# Altium footprint library Picoblade 3X1.PcbLib: 1 footprints
Each footprint in its own frame and in the unit in brackets; x right, y up, seen from the top. Pads: shape width x height; smd on the part's side, far side on the other; paste and mask are expansions set on the pad; w line width, h text height; cw(c..) or ccw(c..) is an arc to the next point about the centre after c.
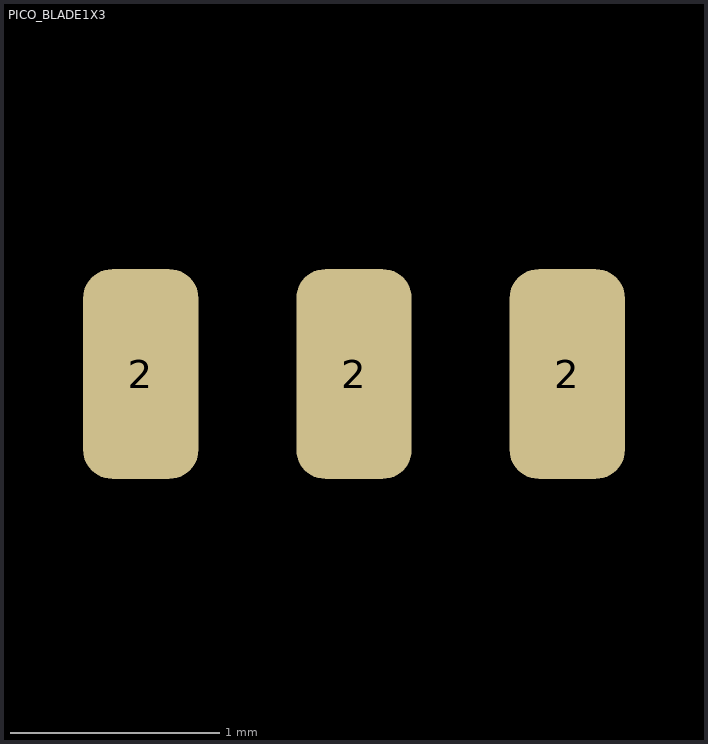
[diagram p0: the footprint, top view; thin cyan lines are the x and y axes]

## PICO_BLADE1X3 [mm]
pads (3):
  rrect50% 0.55x1 smd: 2(3.429,-2.413) 2(4.445,-2.413) 2(5.461,-2.413)
3D body "5037630391.stp": height 0.73, standoff -0.77, extent 0.661,-2.344 8.261,2.846